# EAGLE library part ISP-JTAG (library U-AVR)
AVR Physical Debug and Programming Interace thru JTAG An option for In-System Programming which uses the target AVRs JTAG interface to download code into the flash and EEPROM memories. It is also a debugging interface. NOTE: AVR DRAGON does not connect with pin 7 (VSUP) and pin 8 (nTRST) nTRST is used to reset the JTAG TAP controller but is not found on any AVR yet. rSRST is System Reset which connects to the MCU !RESET VT is Target voltage referance used with level converters, e.g. on the Dragon board.
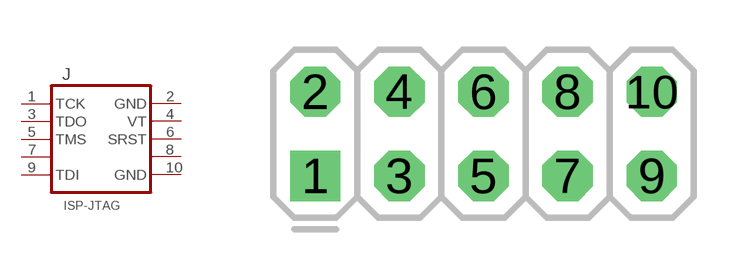
[diagram p9: symbol with the pads of JTAG; footprint JTAG]

Designator prefix J

## ISP-JTAGJTAG  [JTAG]
1  TCK
2  GND  pwr
3  TDO
4  VT  pwr
5  TMS
6  SRST
7  VSUP
8  TRST
9  TDI
10  GND  pwr

## Footprint JTAG (pad centres in mm)
drill 1.016 square: 1 0,0
drill 1.016 octagon: 2 0,2.54; 3 2.54,0; 4 2.54,2.54; 5 5.08,0; 6 5.08,2.54; 7 7.62,0; 8 7.62,2.54; 9 10.16,0; 10 10.16,2.54